# Altium schematic symbol library BH_BC501SM.Schlib: 1 symbol
Pins are listed as number, name and electrical type; pins without a type are passive.

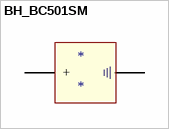
[diagram p0: symbol BH_BC501SM]

## BH_BC501SM
designator *
pins: 1 +, 2 GND